# Altium schematic symbol library AB5301A.SchLib: 17 symbols
Pins are listed as number, name and electrical type; pins without a type are passive.

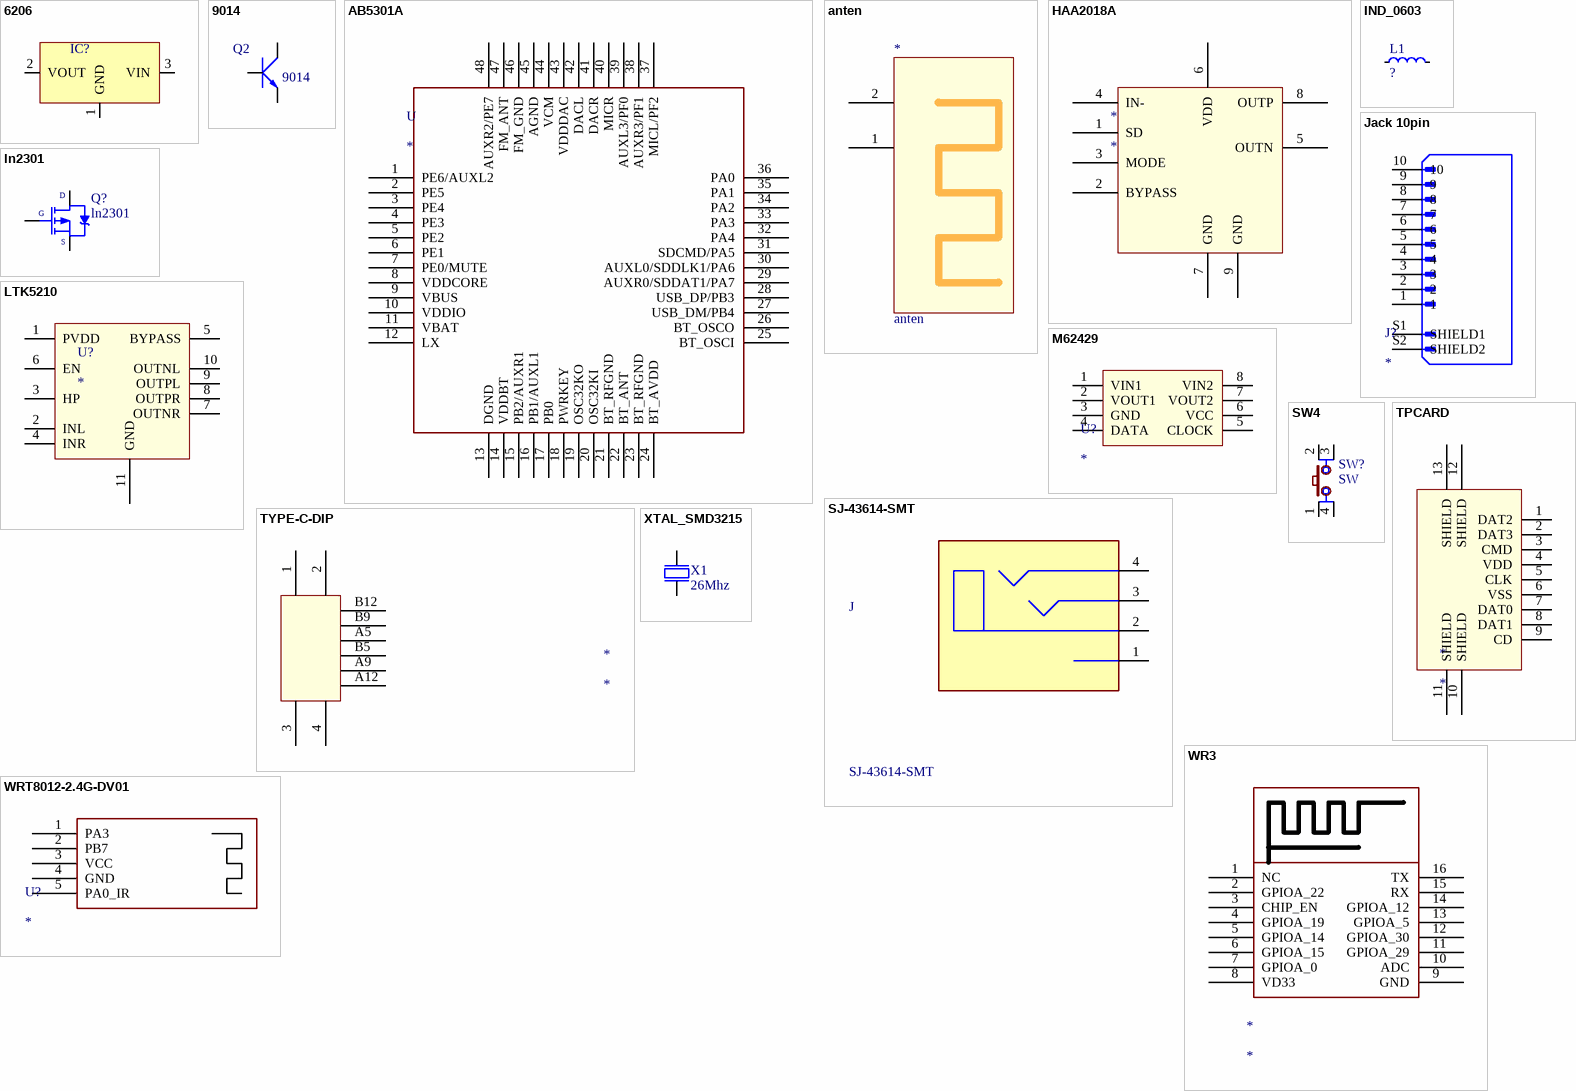
[diagram p0: symbols 6206 to XTAL_SMD3215]

## 6206
designator IC?  (value not drawn)
Positive Voltage Regulator; Note: Tab is connected to pin 3 (GND).; Published: 24-Aug-2001; LatestRevisionDate: 17-Jul-2002; LatestRevisionNote: Re-released for DXP Platform.; DatasheetVersion: Apr-1994; PackageVersion: Jul-1998; PackageReference: ISOWATT220AB; Publisher: Altium Limited; PackageDescription: TO, Thru-Hole, Vertical, Heatsink Mounted; 3 In-Line Leads; Pitch 2.54 mm; Pin sequence 1, 3, 2; ComponentLink1Description: Manufacturer Link; ComponentLink1URL: http://www.st.com/; ComponentLink2Description: Datasheet; ComponentLink2URL: http://www.st.com/stonline/products/literature/ds/2146/l78m05c.pdf
footprint 6260
pins: 1 GND (power), 2 VOUT (power), 3 VIN (power)

## 9014
designator Q2
footprint 9014
pins: 1 B, 2 E, 3 C

## AB5301A
designator U
footprint AB5301A
pins: 1 PE6/AUXL2, 2 PE5, 3 PE4, 4 PE3, 5 PE2, 6 PE1, 7 PE0/MUTE, 8 VDDCORE, 9 VBUS, 10 VDDIO, 11 VBAT, 12 LX, 13 DGND, 14 VDDBT, 15 PB2/AUXR1, 16 PB1/AUXL1, 17 PB0, 18 PWRKEY, 19 OSC32KO, 20 OSC32KI, 21 BT_RFGND, 22 BT_ANT, 23 BT_RFGND, 24 BT_AVDD, 25 BT_OSCI, 26 BT_OSCO, 27 USB_DM/PB4, 28 USB_DP/PB3, 29 AUXR0/SDDAT1/PA7, 30 AUXL0/SDDLK1/PA6, 31 SDCMD/PA5, 32 PA4, 33 PA3, 34 PA2, 35 PA1, 36 PA0, 37 MICL/PF2, 38 AUXR3/PF1, 39 AUXL3/PF0, 40 MICR, 41 DACR, 42 DACL, 43 VDDDAC, 44 VCM, 45 AGND, 46 FM_GND, 47 FM_ANT, 48 AUXR2/PE7

## anten
designator *
footprint MINI_ANT
footprint TI_MIFA
pins: 1, 2

## HAA2018A
designator *
footprint HAA2018A
pins: 1 SD, 2 BYPASS, 3 MODE, 4 IN-, 5 OUTN, 6 VDD, 7 GND, 8 OUTP, 9 GND

## IND_0603
designator L1, comment ?
Chip inductor, IDC,min = 50 mA, ±20%; Part Number: L0603-10µ; Manufacturer: Taiyo Yuden; Manufacturer Part Number: LBMF1608T100K; 2nd source part number: 178-6105; Value: 10µH; Note: LBMF1608T100K 10µH 80mA 0603; Artikkelnr Noca: 33029314; Artikkelnr Simpro: N.A.; Datasheet: http://www.yuden.co.jp/ut/product/pdf/elb2_e.pdf; LatestRevisionDate: 2012-09-19; Pin Count: 2; Publisher: Nordic Semiconductor; Published: 2010-02-24; Supplier: Digi-Key; Supplier part number: 587-1714-1-ND; 2nd source Supplier: Farnell; Footprint Doc: 0603
footprint INDC1608X06L
footprint INDC1005X04L
pins: 1, 2

## Jack 10pin
designator J?
footprint jack 10pin
pins: 1, 2, 3, 4, 5, 6, 7, 8, 9, 10, S1 SHIELD1, S2 SHIELD2

## ln2301
designator Q?
HEXFET P-Channel Power MOSFET; Value: IRF840
footprint LN2301
pins: 1 G, 2 D, 3 S

## LTK5210
designator U?
footprint LTK5210
pins: 1 PVDD "Receiver Output", 2 INL "Driver Input", 3 HP "Driver Enable Output", 4 INR "GND", 5 BYPASS "VCC", 6 EN "Receiver Enable Output", 7 OUTNR "RI & NoneDO", 8 OUTPR "NoneDI", 9 OUTPL "VCC", 10 OUTNL "NoneDI", 11 GND

## M62429
designator U?
footprint m62429
pins: 1 VIN1 "Receiver Output", 2 VOUT1 "Receiver Enable Output", 3 GND "Driver Enable Output", 4 DATA "Driver Input", 5 CLOCK "GND", 6 VCC "RI & NoneDO", 7 VOUT2 "NoneDI", 8 VIN2 "VCC"

## SJ-43614-SMT
designator J
3.5 mm, 4 Conductors, Right Angle, Mid Mount _SMT_, Audio Jack Connector; MP: SJ-43614-SMT-TR; MF: CUI Devices; Price: None; Package: None; Value: *; CUI_purchase_URL: https://www.cuidevices.com/product/interconnect/connectors/audio-connectors/jacks/sj-4361x-smt-series?utm_source=snapeda.com&utm_medium=referral&utm_campaign=snapedaBOM; Availability: Unavailable; SnapEDA_Link: https://www.snapeda.com/parts/SJ-43614-SMT-TR/CUI%20Devices/view-part/534198/?ref=snap
footprint LINER_09
pins: 1 SLEEVE, 2 TIP, 3 RING1, 4 RING2

## SW4
designator SW?, comment SW
Switch button 4 pin; Value: Button chip 4 pin
footprint SW2-SMD (6*6mm vertical type, SMD, height 5.0mm, black actuator, 160gf, T&R)
footprint SW2-DIP (SW button 4pin, 250 x250 mil)
footprint SW
pins: 1, 2, 3, 4

## TPCARD
designator *
footprint TF3
pins: 1 DAT2 "Receiver Output", 2 DAT3 "Receiver Enable Output", 3 CMD "Driver Enable Output", 4 VDD "Driver Input", 5 CLK "GND", 6 VSS "RI & NoneDO", 7 DAT0 "NoneDI", 8 DAT1 "VCC", 9 CD "VCC", 10 SHIELD, 11 SHIELD, 12 SHIELD, 13 SHIELD

## TYPE-C-DIP
designator *
footprint TYPE-C-DIP
pins: 1, 2, 3, 4, A5, A9, A12, B5, B9, B12

## WR3
designator *
footprint WR3
pins: 1 NC, 2 GPIOA_22, 3 CHIP_EN, 4 GPIOA_19, 5 GPIOA_14, 6 GPIOA_15, 7 GPIOA_0, 8 VD33, 9 GND, 10 ADC, 11 GPIOA_29, 12 GPIOA_30, 13 GPIOA_5, 14 GPIOA_12, 15 RX, 16 TX

## WRT8012-2.4G-DV01
designator U?
footprint WRT8012
pins: 1 PA3, 2 PB7, 3 VCC, 4 GND, 5 PA0_IR

## XTAL_SMD3215
designator X1, comment 26Mhz
XTAL SMD 3215, 32.768kHz, 9pF, ±20ppm; Part Number: XTAL_FC-135 32.768k; Manufacturer: Epson Toyocom; Manufacturer Part Number: FC-135 32.768KHZ ±20PPM,9.0PF; 2nd source part number: 127-8037; Note: XTAL SMD 32.768kHz, 3215; Artikkelnr Noca: 22019091; Artikkelnr Simpro: N.A.; Datasheet: http://www.farnell.com/datasheets/57480.pdf; LatestRevisionDate: 2014-03-27; Pin Count: 2; Publisher: Nordic Semiconductor; Published: 2010-10-18; Value: 32.768kHz; Supplier: Digi-Key; Supplier part number: FC-135 32.7680KA-AC-ND; 2nd source Supplier: Farnell; Footprint Doc: XTAL_3215
footprint XTAL_3215
footprint XTAL
pins: 1 inp, 2 out